# Altium footprint library 703W0053.PcbLib: 1 footprints
Each footprint in its own frame and in the unit in brackets; x right, y up, seen from the top. Pads: shape width x height; smd on the part's side, far side on the other; paste and mask are expansions set on the pad; w line width, h text height; cw(c..) or ccw(c..) is an arc to the next point about the centre after c.
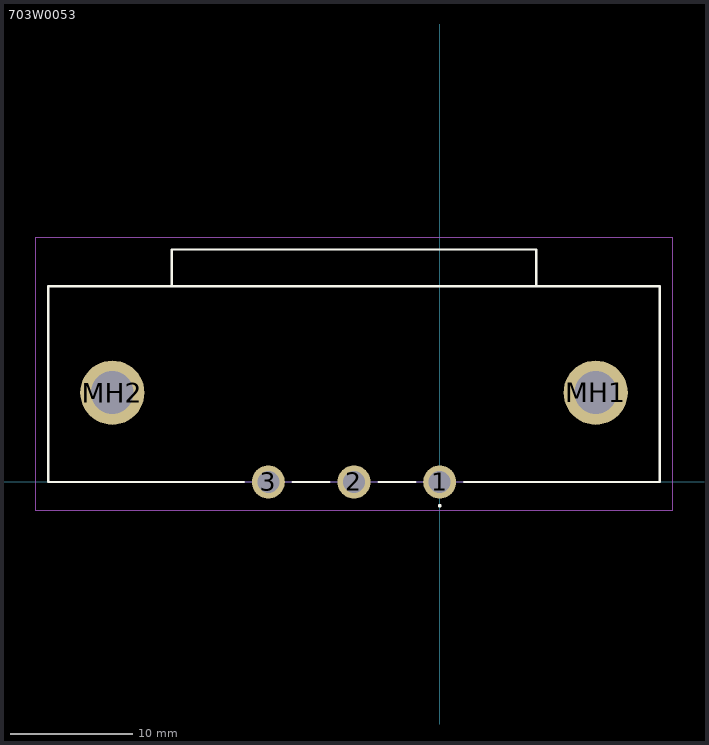
[diagram p0: the footprint, top view; thin cyan lines are the x and y axes]

## 703W0053 [mm]
pads (5):
  round 2.7 hole 1.8: 1(0,0) 2(-7,0) 3(-14,0)
  round 5.25 hole 3.5: MH1(12.75,7.3) MH2(-26.75,7.3)
Top Overlay:
  lines w0.2: -32,0 -16,0 ; -32,0 -32,0 ; -32,0 -16,0 ; -32,0 -32,0 ; -32,0 -32,16 ; -32,0 -32,16 ; -32,16 -32,16 ; -32,16 18,16 ; -32,16 18,16 ; -32,16 -32,16 ; -16,0 -16,0 ; -12,0 -9,0 ; -12,0 -12,0 ; -12,0 -9,0 ; -9,0 -9,0 ; -5,0 -2,0 ; -5,0 -5,0 ; -5,0 -2,0 ; -2,0 -2,0 ; 0,-2 0,-2 ; 0,-2 ccw(c0,-1.95) 0,-1.9 ; 0,-2 cw(c0,-1.95) 0,-1.9 ; 0,-2 0,-2 ; 0,-2 ccw(c0,-1.95) 0,-1.9 ; 0,-1.9 0,-1.9 ; 2,0 18,0 ; 2,0 2,0 ; 2,0 18,0 ; 18,0 18,16 ; 18,0 18,0 ; 18,0 18,16 ; 18,0 18,0 ; 18,16 18,16 ; 18,16 18,16 ; -21.9,16 7.9,16 7.9,19 -21.9,19 -21.9,16
Mechanical 15:
  lines w0.1: -32,0 18,0 18,16 -32,16 -32,0 ; -21.9,16 7.9,16 7.9,19 -21.9,19 -21.9,16
Mechanical 20:
  lines w0.1: -33,-2.35 19,-2.35 19,20 -33,20 -33,-2.35